# Altium schematic symbol library DAQ_Replacement.SchLib: 11 symbols
Pins are listed as number, name and electrical type; pins without a type are passive.

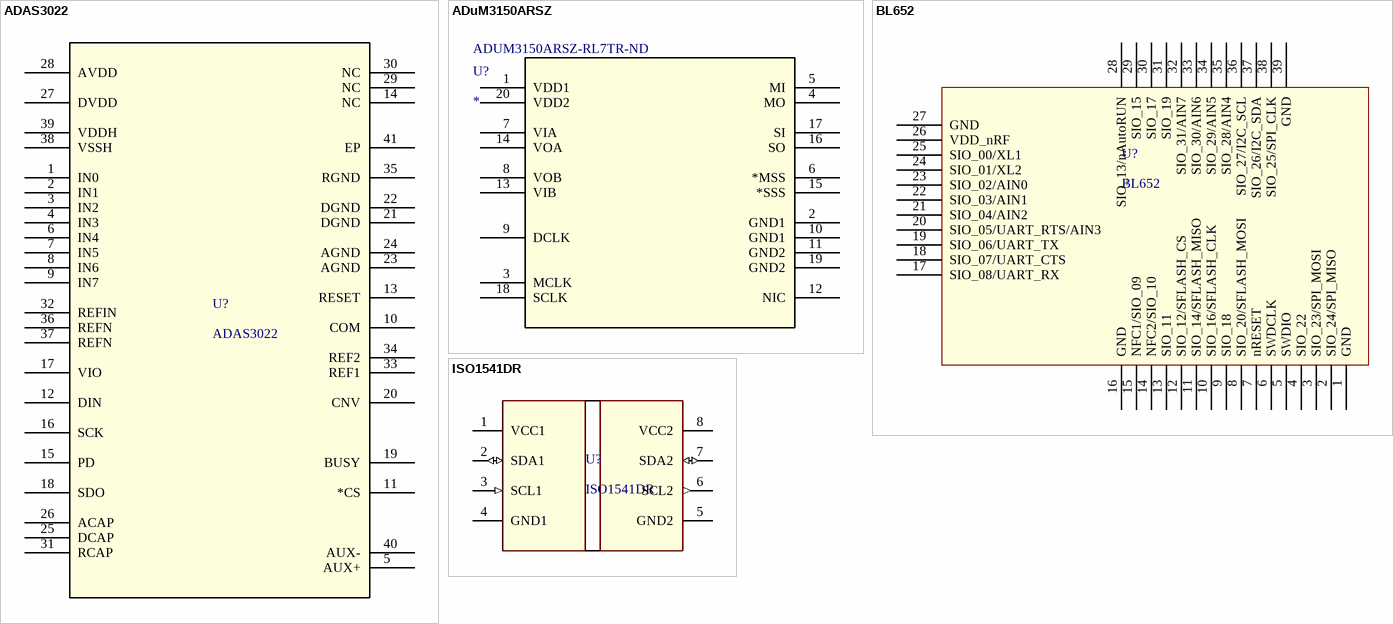
[diagram p0: symbols ADAS3022 to ISO1541DR]

## ADAS3022
designator U?
Manufacturer: Analog Devices Inc.; Manufacturer Part Number: ADAS3022BCPZ; Number of Bits: 16; Sampling Rate (Per Second): 1M; Number of Inputs: 4, 8; Input Type: Differential, Single Ended; Data Interface: SPI; Configuration: MUX-PGA-ADC; Architecture: SAR; Reference Type: External, Internal; Voltage - Supply, Analog: 5V; Supplier 1: Digi-Key; RoHS: RoHS Compliant; Category: Integrated Circuits (ICs); Stock 1: 300; Pricing 1: 1=25.89, 10=23.878 (EUR); Packaging: Tray; Part Status: Active; Ratio - S/H:ADC: -; Voltage - Supply, Digital: 5V; Features: PGA, Temperature Sensor; Operating Temperature: -40°C ~ 85°C; Package / Case: 40-VFQFN Exposed Pad, CSP; Supplier Device Package: 40-LFCSP-VQ (6x6); Base Part Number: ADAS3022; ComponentLink1URL: http://www.analog.com/media/en/technical-documentation/data-sheets/ADAS3022.pdf; ComponentLink1Description: http://www.analog.com/media/en/technical-documentation/data-sheets/ADAS3022.pdf; Supplier Part Number 1: ADAS3022BCPZ-ND
footprint CP_40_7
pins: 1 IN0, 2 IN1, 3 IN2, 4 IN3, 5 AUX+, 6 IN4, 7 IN5, 8 IN6, 9 IN7, 10 COM, 11 *CS, 12 DIN, 13 RESET, 14 NC, 15 PD, 16 SCK, 17 VIO, 18 SDO, 19 BUSY, 20 CNV, 21 DGND, 22 DGND, 23 AGND, 24 AGND, 25 DCAP, 26 ACAP, 27 DVDD, 28 AVDD, 29 NC, 30 NC, 31 RCAP, 32 REFIN, 33 REF1, 34 REF2, 35 RGND, 36 REFN, 37 REFN, 38 VSSH, 39 VDDH, 40 AUX-, 41 EP

## ADuM3150ARSZ
designator U?  Supplier Part Number 1: ADUM3150ARSZ-RL7TR-ND
Imported; Manufacturer: Analog Devices Inc.; Manufacturer Part Number: ADUM3150ARSZ-RL7; Isolated Power: No; Inputs - Side 1/Side 2: 4/2; Channel Type: Unidirectional; Voltage - Isolation: 3750Vrms; Common Mode Transient Immunity (Min): 25kV/µs; Data Rate: 40Mbps; Propagation Delay tpLH / tpHL (Max): 25ns, 25ns; Pulse Width Distortion (Max): 2ns; Rise / Fall Time (Typ): 2.5ns, 2.5ns; Voltage - Supply: 3 V ~ 5.5 V; Value: Value; Type: Type; RefDes: RefDes; Supplier 1: Digi-Key; RoHS: RoHS Compliant; Category: Isolators; Stock 1: 0; Pricing 1: 500=4.07462 (EUR); Packaging: Tape & Reel (TR); Part Status: Active; Technology: Magnetic Coupling; Operating Temperature: -40°C ~ 125°C; Package / Case: 20-SSOP (0.209", 5.30mm Width); Supplier Device Package: 20-SSOP; ComponentLink1URL: http://www.analog.com/media/en/technical-documentation/data-sheets/ADuM3150.pdf; ComponentLink1Description: http://www.analog.com/media/en/technical-documentation/data-sheets/ADuM3150.pdf
footprint RS_20
pins: 1 VDD1, 2 GND1, 3 MCLK, 4 MO, 5 MI, 6 *MSS, 7 VIA, 8 VOB, 9 DCLK, 10 GND1, 11 GND2, 12 NIC, 13 VIB, 14 VOA, 15 *SSS, 16 SO, 17 SI, 18 SCLK, 19 GND2, 20 VDD2

## BL652
designator U?
Manufacturer: Laird - Wireless & Thermal Systems; Manufacturer Part Number: BL652-SA-01-T/R; Utilized IC / Part: nRF52832; RF Family/Standard: Bluetooth; Protocol: Bluetooth v4.2; Frequency: 2.4GHz; Data Rate: 1Mbps; Power - Output: 4dBm; Sensitivity: -96dBm; Serial Interfaces: I²C, SPI, UART; Antenna Type: Integrated, Chip; Memory Size: 512kB Flash, 64kB RAM; Voltage - Supply: 1.7 V ~ 3.6 V; Current - Receiving: 5.4mA; Current - Transmitting: 5.3mA; Supplier 1: Digi-Key; RoHS: RoHS Compliant; Category: RF/IF and RFID; Stock 1: 12877; Pricing 1: 1=6.04 (EUR); Packaging: Cut Tape (CT); Part Status: Active; Modulation: -; Mounting Type: Surface Mount; Operating Temperature: -40°C ~ 85°C; Package / Case: 39-SMD Module; ComponentLink1URL: http://assets.lairdtech.com/home/brandworld/files/Datasheet%20-%20BL652.pdf; ComponentLink1Description: http://assets.lairdtech.com/home/brandworld/files/Datasheet%20-%20BL652.pdf; Supplier Part Number 1: BL652-SA-01-CT-ND
footprint BL652
pins: 1 GND, 2 SIO_24/SPI_MISO, 3 SIO_23/SPI_MOSI, 4 SIO_22, 5 SWDIO, 6 SWDCLK, 7 nRESET, 8 SIO_20/SFLASH_MOSI, 9 SIO_18, 10 SIO_16/SFLASH_CLK, 11 SIO_14/SFLASH_MISO, 12 SIO_12/SFLASH_CS, 13 SIO_11, 14 NFC2/SIO_10, 15 NFC1/SIO_09, 16 GND, 17 SIO_08/UART_RX, 18 SIO_07/UART_CTS, 19 SIO_06/UART_TX, 20 SIO_05/UART_RTS/AIN3, 21 SIO_04/AIN2, 22 SIO_03/AIN1, 23 SIO_02/AIN0, 24 SIO_01/XL2, 25 SIO_00/XL1, 26 VDD_nRF, 27 GND, 28 SIO_13/nAutoRUN, 29 SIO_15, 30 SIO_17, 31 SIO_19, 32 SIO_31/AIN7, 33 SIO_30/AIN6, 34 SIO_29/AIN5, 35 SIO_28/AIN4, 36 SIO_27/I2C_SCL, 37 SIO_26/I2C_SDA, 38 SIO_25/SPI_CLK, 39 GND

## ISO1541DR
designator U?
Imported; Manufacturer: Texas Instruments; CompType: IC; PIN_COUNT: 8; Isolated Power: No; Inputs - Side 1/Side 2: 2/1; Channel Type: Bidirectional, Unidirectional; Voltage - Isolation: 2500Vrms; Common Mode Transient Immunity (Min): 25kV/µs; Data Rate: 1Mbps; Pulse Width Distortion (Max): 80ns, 21ns; Voltage - Supply: 3 V ~ 5.5 V; PartNumber: ISO1541DR; Alternate_PartNumber: ISO1541D; PackageReference: D0008A; MountType: SMT; RoHS: Y; RefDes: RefDes; TYPE: TYPE; Value: Value; Supplier 1: Digi-Key; Manufacturer Part Number: ISO1541DR; Category: Isolators; Stock 1: 6204; Pricing 1: 1=3.62, 10=3.25, 100=2.6626, 500=2.2666, 1000=1.91159 (EUR); Packaging: Cut Tape (CT); Part Status: Active; Technology: Capacitive Coupling; Propagation Delay tpLH / tpHL (Max): -; Rise / Fall Time (Typ): -; Operating Temperature: -40°C ~ 125°C; Package / Case: 8-SOIC (0.154", 3.90mm Width); Supplier Device Package: 8-SOIC; ComponentLink1URL: http://www.ti.com/lit/ds/symlink/iso1541.pdf; ComponentLink1Description: http://www.ti.com/lit/ds/symlink/iso1541.pdf; Supplier Part Number 1: 296-34872-1-ND
footprint D0008A_N
pins: 1 VCC1 (power), 2 SDA1 (io), 3 SCL1 (in), 4 GND1 (power), 5 GND2 (power), 6 SCL2 (out), 7 SDA2 (io), 8 VCC2 (power)

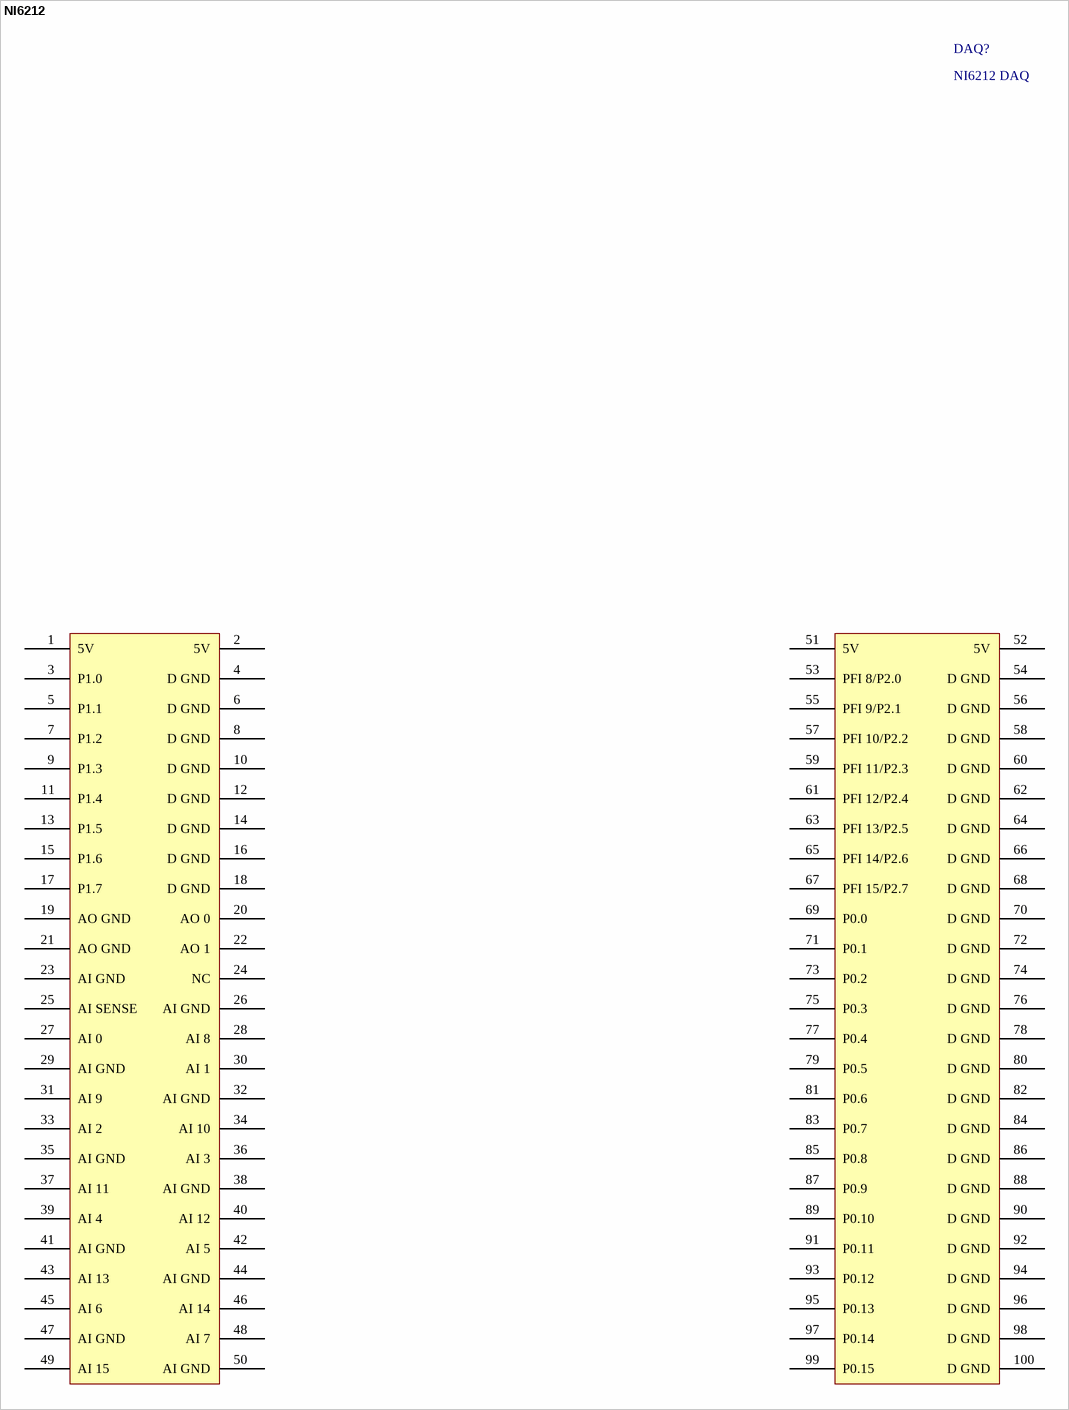
[diagram p1: symbol NI6212]

## NI6212
designator DAQ?, comment NI6212 DAQ
DAQ Unit; Published: 8-Jun-2000; Publisher: National Instruments
footprint NIDAQ6212
pins: 1 5V, 2 5V, 3 P1.0, 4 D GND, 5 P1.1, 6 D GND, 7 P1.2, 8 D GND, 9 P1.3, 10 D GND, 11 P1.4, 12 D GND, 13 P1.5, 14 D GND, 15 P1.6, 16 D GND, 17 P1.7, 18 D GND, 19 AO GND, 20 AO 0, 21 AO GND, 22 AO 1, 23 AI GND, 24 NC, 25 AI SENSE, 26 AI GND, 27 AI 0, 28 AI 8, 29 AI GND, 30 AI 1, 31 AI 9, 32 AI GND, 33 AI 2, 34 AI 10, 35 AI GND, 36 AI 3, 37 AI 11, 38 AI GND, 39 AI 4, 40 AI 12, 41 AI GND, 42 AI 5, 43 AI 13, 44 AI GND, 45 AI 6, 46 AI 14, 47 AI GND, 48 AI 7, 49 AI 15, 50 AI GND, 51 5V, 52 5V, 53 PFI 8/P2.0, 54 D GND, 55 PFI 9/P2.1, 56 D GND, 57 PFI 10/P2.2, 58 D GND, 59 PFI 11/P2.3, 60 D GND, 61 PFI 12/P2.4, 62 D GND, 63 PFI 13/P2.5, 64 D GND, 65 PFI 14/P2.6, 66 D GND, 67 PFI 15/P2.7, 68 D GND, 69 P0.0, 70 D GND, 71 P0.1, 72 D GND, 73 P0.2, 74 D GND, 75 P0.3, 76 D GND, 77 P0.4, 78 D GND, 79 P0.5, 80 D GND, 81 P0.6, 82 D GND, 83 P0.7, 84 D GND, 85 P0.8, 86 D GND, 87 P0.9, 88 D GND, 89 P0.10, 90 D GND, 91 P0.11, 92 D GND, 93 P0.12, 94 D GND, 95 P0.13, 96 D GND, 97 P0.14, 98 D GND, 99 P0.15, 100 D GND

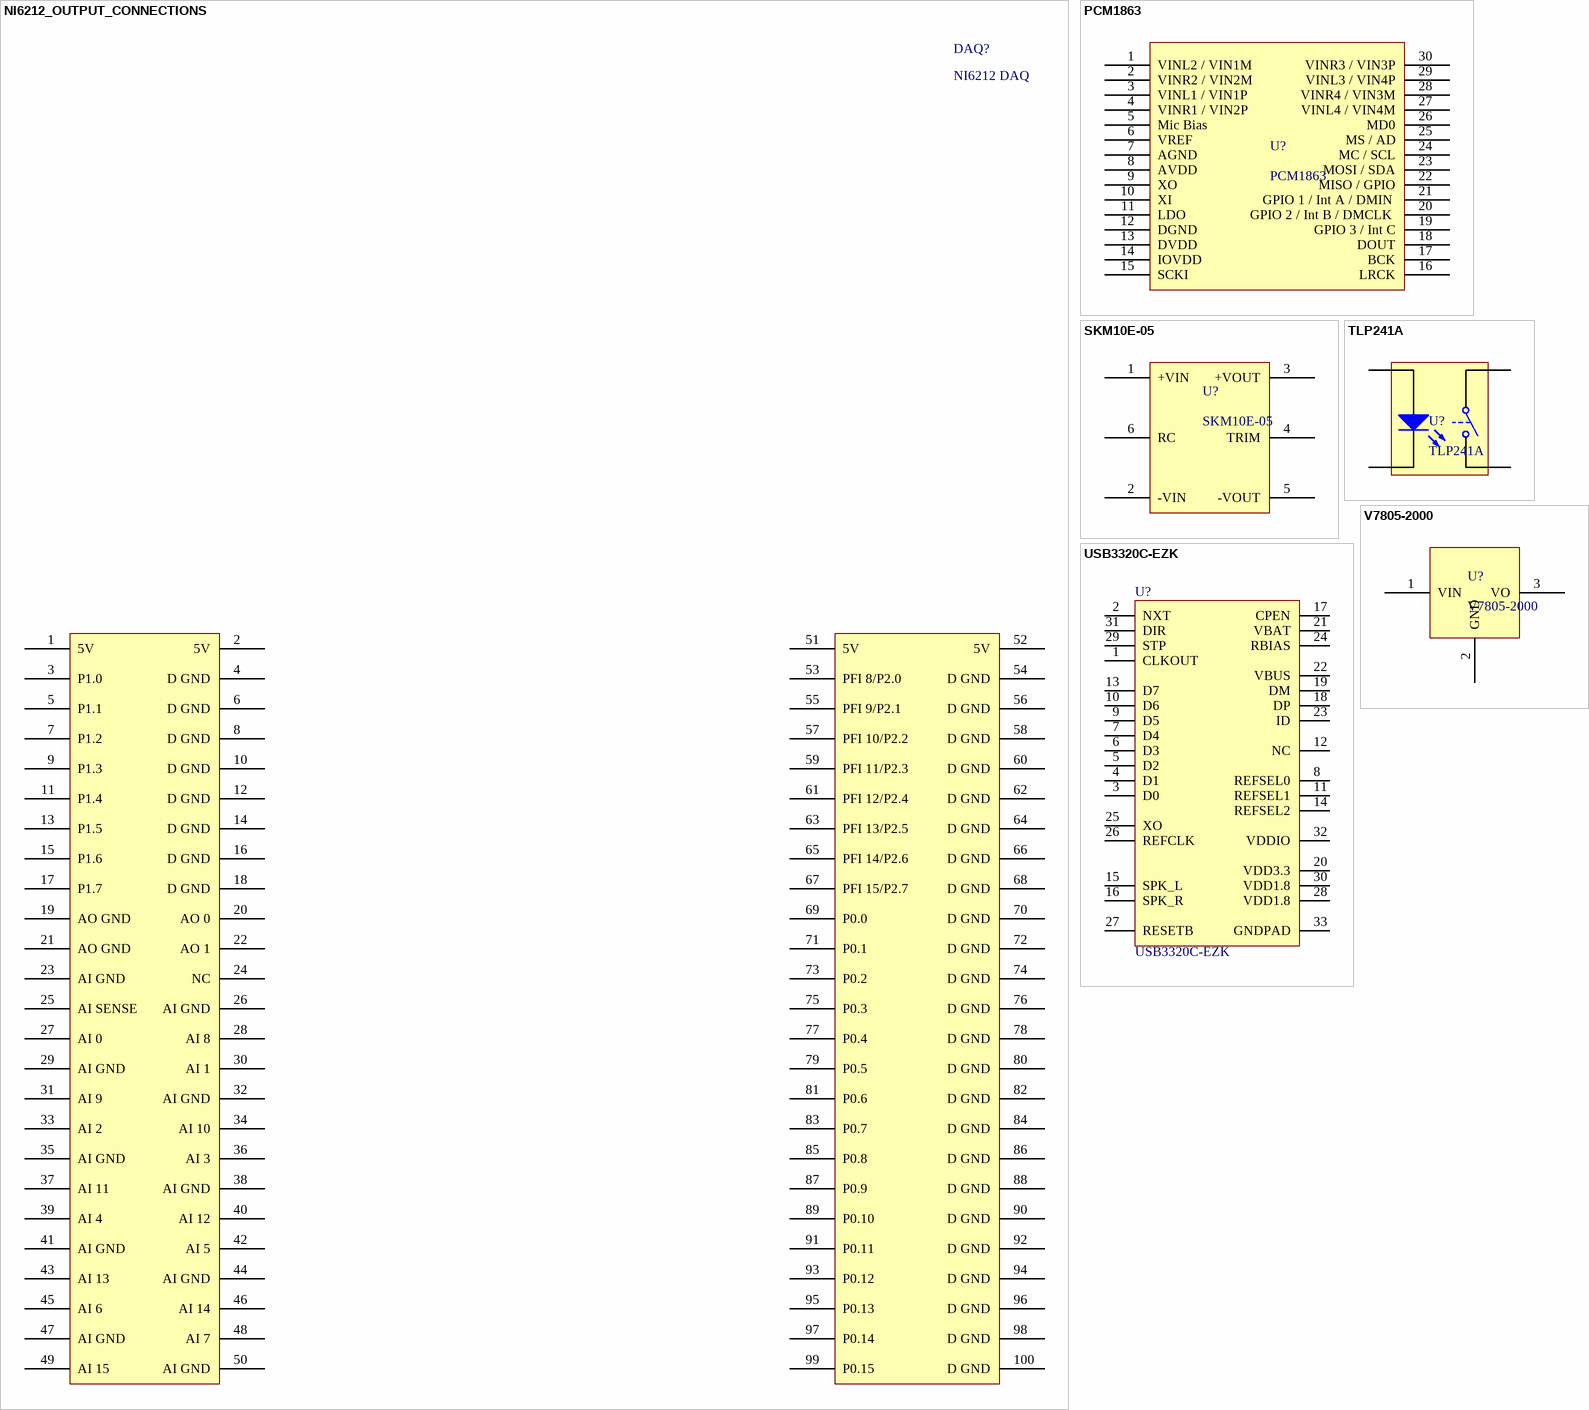
[diagram p2: symbols NI6212_OUTPUT_CONNECTIONS to V7805-2000]

## NI6212_OUTPUT_CONNECTIONS
designator DAQ?, comment NI6212 DAQ
DAQ Unit; Published: 8-Jun-2000; Publisher: National Instruments
footprint OUTPUT_CONNECTORS (NIDAQ)
pins: 1 5V, 2 5V, 3 P1.0, 4 D GND, 5 P1.1, 6 D GND, 7 P1.2, 8 D GND, 9 P1.3, 10 D GND, 11 P1.4, 12 D GND, 13 P1.5, 14 D GND, 15 P1.6, 16 D GND, 17 P1.7, 18 D GND, 19 AO GND, 20 AO 0, 21 AO GND, 22 AO 1, 23 AI GND, 24 NC, 25 AI SENSE, 26 AI GND, 27 AI 0, 28 AI 8, 29 AI GND, 30 AI 1, 31 AI 9, 32 AI GND, 33 AI 2, 34 AI 10, 35 AI GND, 36 AI 3, 37 AI 11, 38 AI GND, 39 AI 4, 40 AI 12, 41 AI GND, 42 AI 5, 43 AI 13, 44 AI GND, 45 AI 6, 46 AI 14, 47 AI GND, 48 AI 7, 49 AI 15, 50 AI GND, 51 5V, 52 5V, 53 PFI 8/P2.0, 54 D GND, 55 PFI 9/P2.1, 56 D GND, 57 PFI 10/P2.2, 58 D GND, 59 PFI 11/P2.3, 60 D GND, 61 PFI 12/P2.4, 62 D GND, 63 PFI 13/P2.5, 64 D GND, 65 PFI 14/P2.6, 66 D GND, 67 PFI 15/P2.7, 68 D GND, 69 P0.0, 70 D GND, 71 P0.1, 72 D GND, 73 P0.2, 74 D GND, 75 P0.3, 76 D GND, 77 P0.4, 78 D GND, 79 P0.5, 80 D GND, 81 P0.6, 82 D GND, 83 P0.7, 84 D GND, 85 P0.8, 86 D GND, 87 P0.9, 88 D GND, 89 P0.10, 90 D GND, 91 P0.11, 92 D GND, 93 P0.12, 94 D GND, 95 P0.13, 96 D GND, 97 P0.14, 98 D GND, 99 P0.15, 100 D GND

## PCM1863
designator U?
Manufacturer: Texas Instruments; Manufacturer Part Number: PCM1863DBTR; Resolution (Bits): 24 b; Data Interface: I²C, SPI; Voltage Supply Source: Single Supply; Voltage - Supply: 3.3V; Supplier 1: Digi-Key; RoHS: RoHS Compliant; Category: Integrated Circuits (ICs); Stock 1: 0; Pricing 1: 1=3.85, 10=3.452, 100=2.829, 500=2.40826, 1000=2.03106 (EUR); Packaging: Cut Tape (CT); Part Status: Active; Type: ADC, Audio; Sampling Rate (Per Second): -; Operating Temperature: -40°C ~ 125°C; Mounting Type: Surface Mount; Package / Case: 30-TFSOP (0.173", 4.40mm Width); Supplier Device Package: 30-TSSOP; Base Part Number: PCM1863; ComponentLink1URL: http://www.ti.com/lit/ds/symlink/pcm1861.pdf; ComponentLink1Description: http://www.ti.com/lit/ds/symlink/pcm1861.pdf; Supplier Part Number 1: 296-47817-1-ND
footprint TSSOP30
pins: 1 VINL2 / VIN1M, 2 VINR2 / VIN2M, 3 VINL1 / VIN1P, 4 VINR1 / VIN2P, 5 Mic Bias, 6 VREF, 7 AGND, 8 AVDD, 9 XO, 10 XI, 11 LDO, 12 DGND, 13 DVDD, 14 IOVDD, 15 SCKI, 16 LRCK, 17 BCK, 18 DOUT, 19 GPIO 3 / Int C, 20 GPIO 2 / Int B / DMCLK , 21 GPIO 1 / Int A / DMIN , 22 MISO / GPIO, 23 MOSI / SDA, 24 MC / SCL, 25 MS / AD, 26 MD0, 27 VINL4 / VIN4M, 28 VINR4 / VIN3M, 29 VINL3 / VIN4P, 30 VINR3 / VIN3P

## SKM10E-05
designator U?
Manufacturer: Mean Well USA Inc.; Voltage - Input (Min): 4.7V; Voltage - Input (Max): 9V; Voltage - Output 1: 5V; Current - Output (Max): 2A; Efficiency: 87%; Supplier 1: Digi-Key; Manufacturer Part Number: SKM10E-05; RoHS: RoHS Compliant; Category: Power Supplies - Board Mount; Stock 1: 0; Pricing 1: 1=15.97, 10=15.723, 25=15.4772, 50=14.7404 (EUR); Packaging: -; Part Status: Active; Type: Isolated Module; Voltage - Output 2: -; Voltage - Output 3: -; Voltage - Output 4: -; Applications: ITE (Commercial); Features: Remote On/Off, OCP, OVP, UVLO; Operating Temperature: -40°C ~ 85°C (With Derating); Mounting Type: Through Hole; Package / Case: 6-DIP Module; Size / Dimension: 1.00" L x 1.00" W x 0.40" H (25.4mm x 25.4mm x 10.2mm); Supplier Device Package: -; Supplier Part Number 1: 1866-4631-ND
footprint SKM10E-05
pins: 1 +VIN, 2 -VIN, 3 +VOUT, 4 TRIM, 5 -VOUT, 6 RC

## TLP241A
designator U?
pins: 1, 2, 3, 4

## USB3320C-EZK
designator U?
USB3320C,  Hi-Speed USB Host, Device or OTG PHY with ULPI Low Pin Interface; Manuf_1: MICROCHIP; Manuf_Part_1: USB3320C-EZK-TR; Distrib: MICROCHIP; Order: USB3320C-EZK-TR; ECCN_US/EU: *
footprint QFN32_0R5_5X5 (Footprint not found)
footprint MCHP-QFN-32-5x5_V2 (QFN, 32-Leads, Body 5x5mm, Pitch 0.5mm, Thermal Pad 3.3x3.3mm)
pins: 1 CLKOUT, 2 NXT, 3 D0, 4 D1, 5 D2, 6 D3, 7 D4, 8 REFSEL0, 9 D5, 10 D6, 11 REFSEL1, 12 NC, 13 D7, 14 REFSEL2, 15 SPK_L, 16 SPK_R, 17 CPEN, 18 DP, 19 DM, 20 VDD3.3, 21 VBAT, 22 VBUS, 23 ID, 24 RBIAS, 25 XO, 26 REFCLK, 27 RESETB, 28 VDD1.8, 29 STP, 30 VDD1.8, 31 DIR, 32 VDDIO, 33 GNDPAD

## V7805-2000
designator U?
Manufacturer: CUI Inc.; Voltage - Input (Min): 7V; Voltage - Input (Max): 18V; Voltage - Output 1: 5V; Current - Output (Max): 2A; Efficiency: 91%; Supplier 1: Digi-Key; Manufacturer Part Number: V7805-2000; RoHS: RoHS Compliant; Category: Power Supplies - Board Mount; Stock 1: 2235; Pricing 1: 1=8.21, 5=8.144, 10=8.082, 25=7.958, 50=7.7092, 100=6.9631, 250=6.83876, 500=6.71444 (EUR); Packaging: Tube; Part Status: Active; Type: Linear Regulator Replacement; Voltage - Output 2: -; Voltage - Output 3: -; Applications: ITE (Commercial); Features: OTP, SCP; Operating Temperature: -40°C ~ 85°C; Mounting Type: Through Hole; Package / Case: 3-SIP Module; Size / Dimension: 0.45" L x 0.35" W x 0.69" H (11.5mm x 9.0mm x 17.5mm); ComponentLink1URL: http://www.cui.com/product/resource/digikeypdf/v78xx-2000.pdf; ComponentLink1Description: http://www.cui.com/product/resource/digikeypdf/v78xx-2000.pdf; Supplier Part Number 1: 102-2175-ND
footprint V7805-2000
pins: 1 VIN, 2 GND, 3 VO